# EAGLE library part SW-DIP3-SPST (library Mechanical)
3 position single pole, single throw switch block
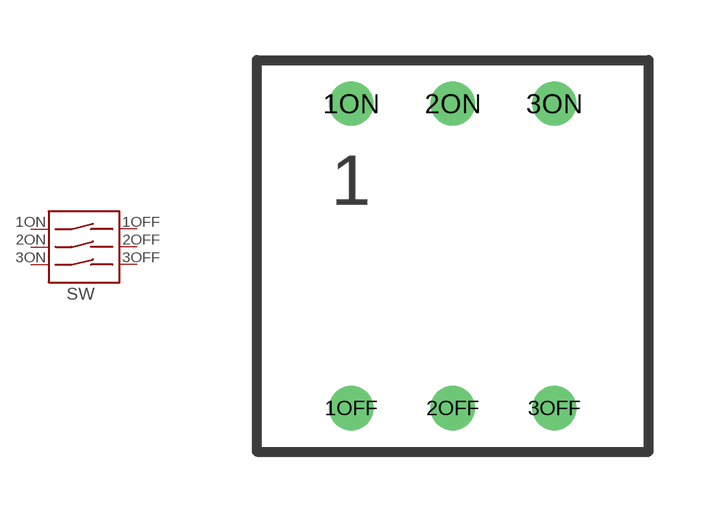
[diagram p81: symbol with the pads of CTS-206-3; footprint CTS-206-3]

Designator prefix SW

## SW-DIP3-SPST  [CTS-206-3]
1OFF  1OFF  pas
1ON  1ON  pas
2OFF  2OFF  pas
2ON  2ON  pas
3OFF  3OFF  pas
3ON  3ON  pas

## Footprint CTS-206-3 (pad centres in mm)
CTS Multifunctional Through Hole DIP Switches. This part comes from the Series 206/208 data sheet. This is a 3 position SPST DIP switch block.
drill 0.6: 1OFF -2.54,-3.81; 1ON -2.54,3.81; 2OFF 0,-3.81; 2ON 0,3.81; 3OFF 2.54,-3.81; 3ON 2.54,3.81